# Altium footprint library SHDRRA4W55P200_2X2_665X640X630P.PcbLib: 1 footprints
Each footprint in its own frame and in the unit in brackets; x right, y up, seen from the top. Pads: shape width x height; smd on the part's side, far side on the other; paste and mask are expansions set on the pad; w line width, h text height; cw(c..) or ccw(c..) is an arc to the next point about the centre after c.
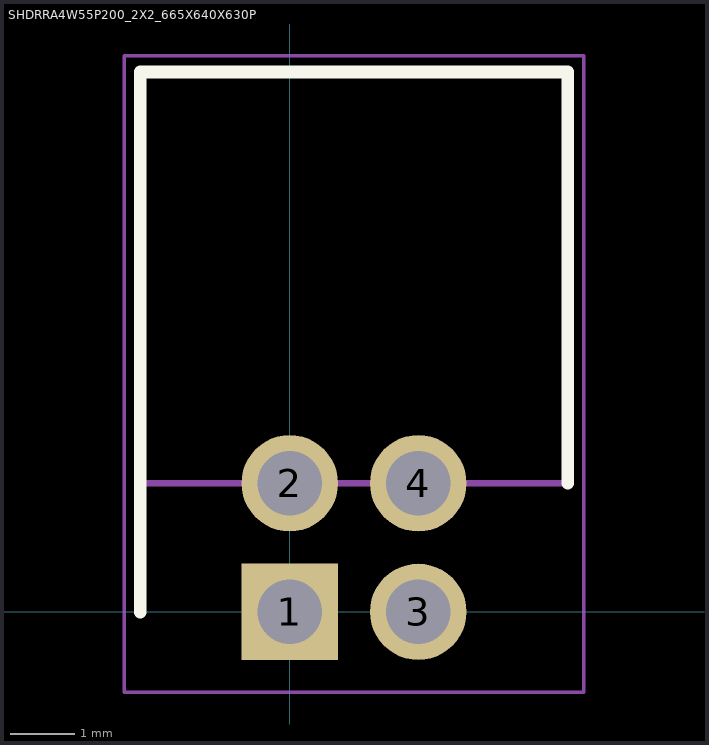
[diagram p0: the footprint, top view; thin cyan lines are the x and y axes]

## SHDRRA4W55P200_2X2_665X640X630P [mm]
pads (4):
  rect 1.5x1.5 / inner round 1.5 / far side rect 1.5x1.5 hole 1: 1(0,0)
  round 1.5 hole 1: 2(0,2) 3(2,0) 4(2,2)
Top Overlay:
  lines w0.2: -2.325,0 -2.325,8.4 4.325,8.4 4.325,2
Mechanical 15:
  lines w0.1: -2.325,2 -2.325,8.4 4.325,8.4 4.325,2 -2.325,2
Mechanical 20:
  lines w0.05: -2.575,-1.25 4.575,-1.25 4.575,8.65 -2.575,8.65 -2.575,-1.25